# Altium schematic symbol library Batterey.SchLib: 1 symbol
Pins are listed as number, name and electrical type; pins without a type are passive.

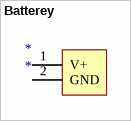
[diagram p0: symbol Batterey]

## Batterey
designator *
footprint Batterey
pins: 1 V+, 2 GND